# Altium schematic symbol library SDM30-24S5.SchLib: 1 symbol
Pins are listed as number, name and electrical type; pins without a type are passive.

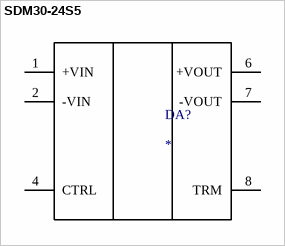
[diagram p0: symbol SDM30-24S5]

## SDM30-24S5
designator DA?
Power Supply; Manufacturer_Name: Mean Well; Manufacturer_Part_Number: SDM30-24S5; Description: Isolated DC/DC Converters 25W 24Vin 5Vout 5A; Datasheet Link: https://meanwell.hu/userfiles/webshop/products/attachments/SDM30-24S5.pdf; Height: 16mm
footprint SDM3024S5
pins: 1 +VIN, 2 -VIN, 4 CTRL, 6 +VOUT, 7 -VOUT, 8 TRM